# EAGLE library part CON-MICRO-SD (library kaibader)
Micro Secure Digital (Micro-SD) Card Connector
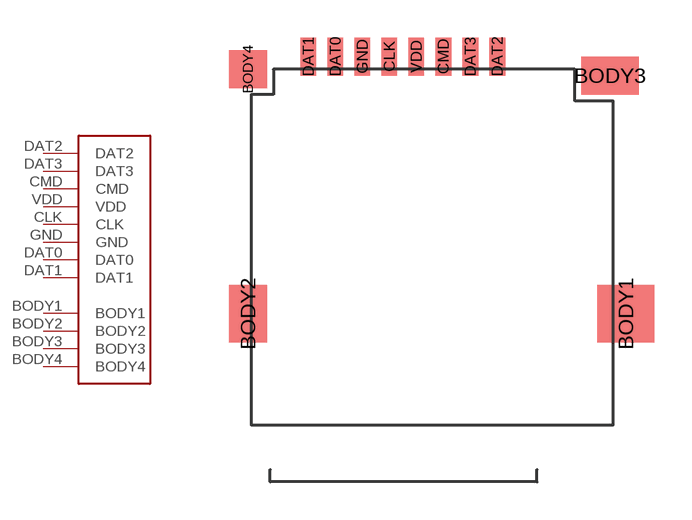
[diagram p3: symbol with the pads of CON-MICRO-SD; footprint CON-MICRO-SD]

Designator prefix CN

## CON-MICRO-SD  [CON-MICRO-SD]
BODY1  BODY1
BODY2  BODY2
BODY3  BODY3
BODY4  BODY4
CLK  CLK
CMD  CMD
DAT0  DAT0
DAT1  DAT1
DAT2  DAT2
DAT3  DAT3
GND  GND  pwr
VDD  VDD  pwr

## Footprint CON-MICRO-SD (pad centres in mm)
Micro Secure Digital (Micro-SD) Card Connector
smd 2.286 x 2.286: BODY1 16.383,6.731
smd 1.524 x 2.286: BODY2 1.27,6.731
smd 2.286 x 1.524: BODY3 15.748,16.256
smd 1.524 x 1.524: BODY4 1.27,16.51
smd 0.635 x 1.524: CLK 6.921,17.018; CMD 9.081,17.018; DAT0 4.763,17.018; DAT1 3.683,17.018; DAT2 11.239,17.018; DAT3 10.16,17.018; GND 5.842,17.018; VDD 8.001,17.018